# Altium schematic symbol library SN74LVC1T45DBV.SchLib: 1 symbol
Pins are listed as number, name and electrical type; pins without a type are passive.

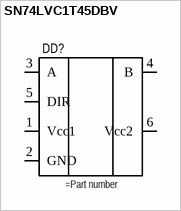
[diagram p0: symbol SN74LVC1T45DBV]

## SN74LVC1T45DBV
designator DD?
pins: 1 Vcc1, 2 GND, 3 A, 4 B, 5 DIR, 6 Vcc2